# EAGLE library part LTC3105 (library PowerProducts)
LT-Spice library generated with : ltspice.ulp from: D:/Program Files (x86)/LTC/LTspiceIV/lib/sym/PowerProducts/LTC3108*.asy at 07.10.2012 17:14:56
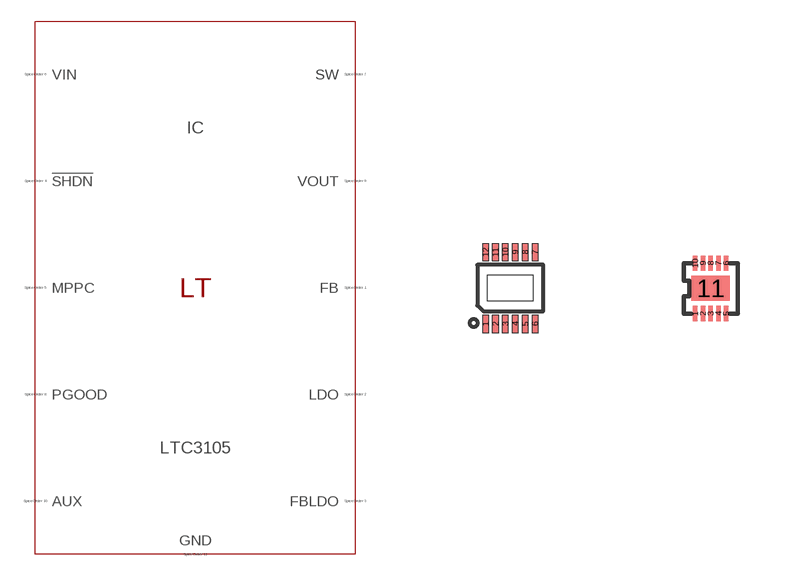
[diagram p118: symbol with the pads of MSOP12(MS); footprints MSOP12(MS), DFN10(DD)]

Designator prefix IC

## LTC3105MS (SPICEMODEL: LTC3105.sub; SPICEPREFIX: X; VALUE2: LTC3105)  [MSOP12(MS)]
1  FB  pas
2  LDO  pas
3  FBLDO  pas
4  !SHDN  pas
5  MPPC  pas
6  GND  pas
7  GND  pas
8  VIN  pas
9  SW  pas
10  PGOOD  pas
11  VOUT  pas
12  AUX  pas

## LTC3105 (SPICEMODEL: LTC3105.sub; SPICEPREFIX: X; VALUE2: LTC3105)  [DFN10(DD)]
1  FB  pas
2  LDO  pas
3  FBLDO  pas
4  !SHDN  pas
5  MPPC  pas
6  VIN  pas
7  SW  pas
8  PGOOD  pas
9  VOUT  pas
10  AUX  pas
11  GND  pas

## Footprint MSOP12(MS) (pad centres in mm)
Package generated from: MSOP12(MS).asc (!PADS-POWERPCB-V9.3-BASIC! DESIGN DATABASE ASCII FILE 1.0) with :import-pads-powerpcb-v5.ulp Version 1.0.1 at 04.10.2012 14:11:19
smd 0.165 x 0.435: 1 -0.619,-0.895; 2 -0.372,-0.895; 3 -0.124,-0.895; 4 0.124,-0.895; 5 0.372,-0.895; 6 0.619,-0.895; 7 0.619,0.895; 8 0.372,0.895; 9 0.124,0.895; 10 -0.124,0.895; 11 -0.372,0.895; 12 -0.619,0.895

## Footprint DFN10(DD) (pad centres in mm)
Package generated from: DFN10(DD).asc (!PADS-POWERPCB-V9.3-BASIC! DESIGN DATABASE ASCII FILE 1.0) with :import-pads-powerpcb-v5.ulp Version 1.0.1 at 04.10.2012 14:11:16
smd 0.116 x 0.387: 1 -0.387,-0.629; 2 -0.194,-0.629; 3 0,-0.629; 4 0.194,-0.629; 5 0.387,-0.629; 6 0.387,0.629; 7 0.194,0.629; 8 0,0.629; 9 -0.194,0.629; 10 -0.387,0.629
smd 0.968 x 0.629: 11 0,0